# Altium integrated library TBP02R2-381-03BE.IntLib: 1 symbol
Pins are listed as number, name and electrical type; pins without a type are passive.

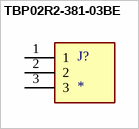
[diagram p0: symbol TBP02R2-381-03BE]

## TBP02R2-381-03BE
designator J?
2~24 Poles, Pluggable, Receptacle, Vertical, 3.81 Pitch, Terminal Block Connector; MF: CUI Devices; MP: TBP02R2-381-03BE; CUI_purchase_URL: https://www.cuidevices.com/product/interconnect/connectors/terminal-blocks/tbp02r2-381-series?utm_source=snapeda.com&utm_medium=referral&utm_campaign=snapedaBOM; Value: *; Price: None; Check_prices: https://www.snapeda.com/parts/TBP02R2-381-03BE/CUI+Devices/view-part/?ref=eda; Package: None; Availability: In Stock; Purchase-URL: https://pricing.snapeda.com/search/part/TBP02R2-381-03BE/?ref=eda; SnapEDA_Link: https://www.snapeda.com/parts/TBP02R2-381-03BE/CUI+Devices/view-part/?ref=snap
footprint CUI_TBP02R2-381-03BE
pins: 1, 2, 3